# Altium integrated library 5-1879271-6.IntLib: 1 symbol
Pins are listed as number, name and electrical type; pins without a type are passive.

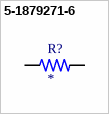
[diagram p0: symbol 5-1879271-6]

## 5-1879271-6
designator R?
RP 2A 165R 0.1% 15PPM 1K RL; MP: 5-1879271-6; Package: None; Price: None; Value: *; Availability: Unavailable
footprint RESC2012X65N
pins: 1, 2